# Altium footprint library HIROSE-ZX62D-B-5P8.PcbLib: 1 footprints
Each footprint in its own frame and in the unit in brackets; x right, y up, seen from the top. Pads: shape width x height; smd on the part's side, far side on the other; paste and mask are expansions set on the pad; w line width, h text height; cw(c..) or ccw(c..) is an arc to the next point about the centre after c.
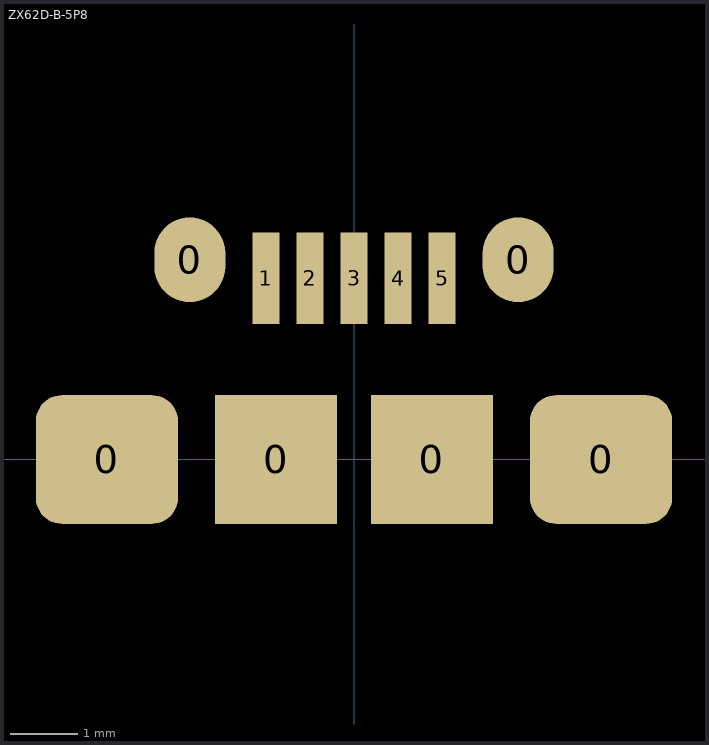
[diagram p0: the footprint, top view; thin cyan lines are the x and y axes]

## ZX62D-B-5P8 [mm] "Hirose Micro USB"
height 2.6
pads (11):
  rrect40% 2.1x1.9 smd: 0(-3.65,0) 0(3.65,0)
  rrect100% 1.05x1.25 smd: 0(-2.425,2.95) 0(2.425,2.95)
  rect 1.8x1.9 smd: 0(-1.15,0) 0(1.15,0)
  rect 0.4x1.35 smd: 1(-1.3,2.675) 2(-0.65,2.675) 3(0,2.675) 4(0.65,2.675) 5(1.3,2.675)
Mechanical 1:
  lines w0.01: -3.685,-0.76 -3.455,-0.76 ; -3.685,0.74 -3.455,0.74 ; -3.68,-0.76 cw(c-3.68,-0.46) -3.98,-0.46 -3.98,0.44 cw(c-3.68,0.44) -3.68,0.74 ; -3.46,-0.76 ccw(c-3.46,-0.46) -3.16,-0.46 -3.16,0.44 ccw(c-3.46,0.44) -3.46,0.74 ; 3.455,-0.74 3.685,-0.74 ; 3.455,0.76 3.685,0.76 ; 3.46,-0.74 cw(c3.46,-0.44) 3.16,-0.44 3.16,0.46 cw(c3.46,0.46) 3.46,0.76 ; 3.68,-0.74 ccw(c3.68,-0.44) 3.98,-0.44 3.98,0.46 ccw(c3.68,0.46) 3.68,0.76 ; -2.75,2.85 ccw(c-2.425,2.85) -2.1,2.85 -2.1,3.05 ccw(c-2.425,3.05) -2.75,3.05 -2.75,2.85 ; 2.1,2.85 ccw(c2.425,2.85) 2.75,2.85 2.75,3.05 ccw(c2.425,3.05) 2.1,3.05 2.1,2.85
3D body "ZX62D-B-5P8.stp": height 2.85, standoff -0.65, extent -4.047,-2.75 4.047,3.05